# Altium schematic symbol library SW PUSH NO TH.Schlib: 1 symbol
Pins are listed as number, name and electrical type; pins without a type are passive.

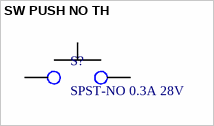
[diagram p0: symbol SW PUSH NO TH]

## SW PUSH NO TH
designator S?, comment SPST-NO 0.3A 28V
Pushbutton Switch SPST-NO Standard Through Hole
pins: 1, 2